# Altium footprint library JST-CONNECTORS.PcbLib: 3 footprints
Each footprint in its own frame and in the unit in brackets; x right, y up, seen from the top. Pads: shape width x height; smd on the part's side, far side on the other; paste and mask are expansions set on the pad; w line width, h text height; cw(c..) or ccw(c..) is an arc to the next point about the centre after c.
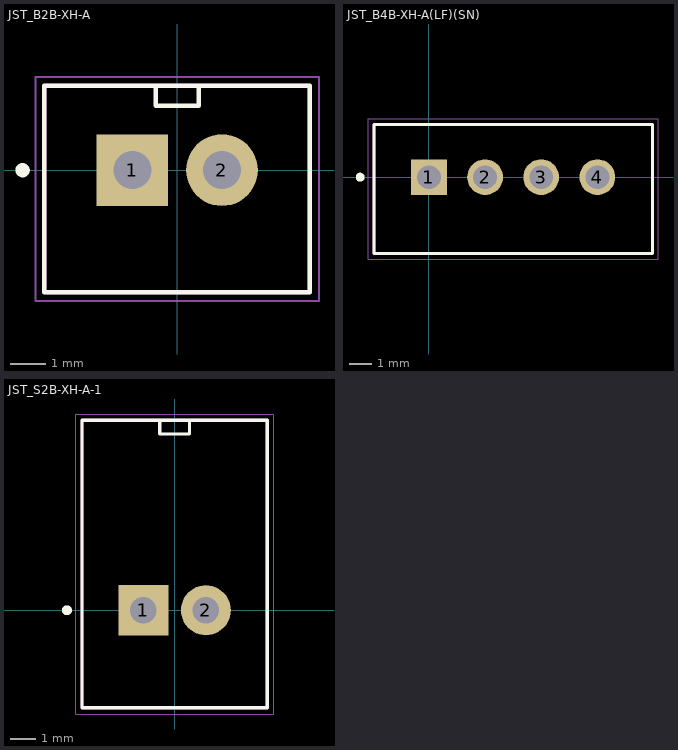
[diagram p0: the footprints below, top view; thin cyan lines are the x and y axes]

## JST_B2B-XH-A [mm]
pads (2):
  rect 2x2 hole 1.06: 1(-1.25,0)
  round 2 hole 1.06: 2(1.25,0)
Top Overlay:
  circle w0.2: c-4.31,0 r0.1
  lines w0.127: -0.6,2.35 -0.6,1.8 0.6,1.8 0.6,2.35 ; -3.7,-3.4 3.703,-3.4 3.703,2.35 -3.7,2.35 -3.7,-3.4
Mechanical 13:
  lines w0.127: -3.7,-3.4 3.703,-3.4 3.703,2.35 -3.7,2.35 -3.7,-3.4
Mechanical 15:
  lines w0.05: -3.95,-3.65 3.957,-3.65 3.957,2.6 -3.95,2.6 -3.95,-3.65
3D body "B2B-XH-A.STEP": height 7.03, standoff -3.37, extent -3.7,-3.4 3.7,2.35

## JST_B4B-XH-A(LF)(SN) [mm]
pads (4):
  rect 1.59x1.59 hole 1.06: 1(0,0)
  round 1.59 hole 1.06: 2(2.5,0) 3(5,0) 4(7.5,0)
Top Overlay:
  circle w0.2: c-3.06,0 r0.1
  lines w0.127: -2.45,-3.4 9.95,-3.4 9.95,2.35 -2.45,2.35 -2.45,-3.4
Mechanical 13:
  lines w0.127: -2.45,-3.4 9.95,-3.4 9.95,2.35 -2.45,2.35 -2.45,-3.4
Mechanical 15:
  lines w0.05: -2.7,-3.65 10.2,-3.65 10.2,2.6 -2.7,2.6 -2.7,-3.65
3D body "step_temp.STEP": height 7, standoff -3.4, extent -2.45,-3.4 9.95,2.35

## JST_S2B-XH-A-1 [mm]
pads (2):
  rect 2x2 hole 1.06: 1(-1.25,0)
  round 2 hole 1.06: 2(1.25,0)
Top Overlay:
  circle w0.2: c-4.31,0 r0.1
  lines w0.127: -0.6,7.6 -0.6,7.05 0.6,7.05 0.6,7.6 ; -3.7,-3.9 3.7,-3.9 3.7,7.6 -3.7,7.6 -3.7,-3.9
Mechanical 13:
  lines w0.127: -3.7,-3.9 3.703,-3.9 3.703,7.6 -3.7,7.6 -3.7,-3.9
Mechanical 15:
  lines w0.05: -3.95,-4.15 3.957,-4.15 3.957,7.85 -3.95,7.85 -3.95,-4.15
3D body "S2B-XH-A-1.STEP": height 5.95, standoff -3.4, extent -3.7,-3.9 3.7,7.6